# Altium schematic symbol library SW280408-1.SchLib: 1 symbol
Pins are listed as number, name and electrical type; pins without a type are passive.

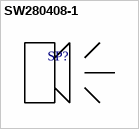
[diagram p0: symbol SW280408-1]

## SW280408-1
designator SP?, comment 8 ohm 1.5W  (value not drawn)
PartNumber: SW280408-1; PartDescription: WATERPROOF DYNAMIC SPEAKER; Manufacturer: DB Unlimited; Package Type: 2 TH; Supplier 1: Digi-Key; Supplier Part Number 1: 2104-SW280408-1-ND
footprint SW280408-1